# EAGLE library part HEADER_1X9 (library heck)
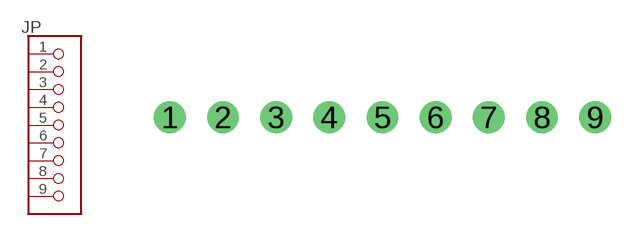
[diagram p31: symbol with the pads of HEADER_100MIL_1X9; footprint HEADER_100MIL_1X9]

Designator prefix JP

## HEADER_1X9_100MIL_PTH  [HEADER_100MIL_1X9]
1  1  pas
2  2  pas
3  3  pas
4  4  pas
5  5  pas
6  6  pas
7  7  pas
8  8  pas
9  9  pas

## Footprint HEADER_100MIL_1X9 (pad centres in mm)
drill 1.016 pad 1.524: 1 -10.16,0; 2 -7.62,0; 3 -5.08,0; 4 -2.54,0; 5 0,0; 6 2.54,0; 7 5.08,0; 8 7.62,0; 9 10.16,0